# EAGLE library part ADA4610-2ARZ-R7 (library ADA4610-2ARZ-R7)
Low Noise, Precision, Rail-to-Rail Output, JFET Dual Op Amp +/-5 V to +/-15 V 40C to +125C Source: Datasheet <https://www.analog.com/ADA4610-2/datasheet>
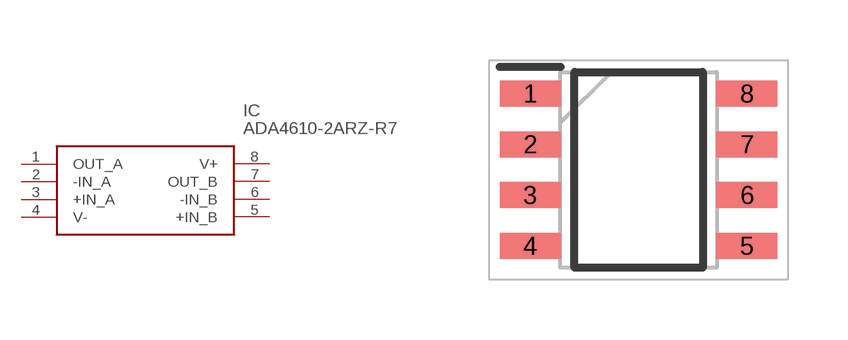
[diagram p0: symbol with the pads of SOIC127P600X175-8N; footprint SOIC127P600X175-8N]

Designator prefix IC

## ADA4610-2ARZ-R7 (Description: Low Noise, Precision, Rail-to-Rail Output, JFET Dual Op Amp +/-5 V to +/-15 V 40C to +125C; Height: 1.75mm; Manufacturer_Name: Analog Devices; Manufacturer_Part_Number: ADA4610-2ARZ-R7; Mouser_Part_Number: 584-ADA4610-2ARZ-R7; Mouser_Price-Stock: https://www.mouser.co.uk/ProductDetail/Analog-Devices/ADA4610-2ARZ-R7?qs=BpaRKvA4VqEBfMREioRxEg%3D%3D)  [SOIC127P600X175-8N]
1  OUT_A
2  -IN_A
3  +IN_A
4  V-
5  +IN_B
6  -IN_B
7  OUT_B
8  V+

## Footprint SOIC127P600X175-8N (pad centres in mm)
R-8 _2025
smd 1.525 x 0.65: 1 -2.712,1.905; 2 -2.712,0.635; 3 -2.712,-0.635; 4 -2.712,-1.905; 5 2.712,-1.905; 6 2.712,-0.635; 7 2.712,0.635; 8 2.712,1.905